# EAGLE library part EPF10K100-IO3 (library mita-akiba)
EPF10K100ARC240 I/O pins 126-174: 41pins
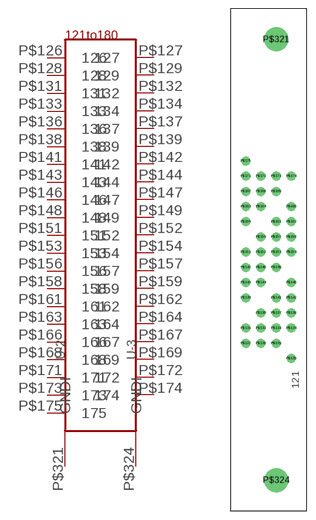
[diagram p15: symbol with the pads of EPF10K100A24IO3; footprint EPF10K100A24IO3]

Designator prefix -; gates -1=EPF10K100A-IO3 -2=GNDINT -3=GNDINT

## EPF10K100-IO3  [EPF10K100A24IO3]
P$126  -1:126
P$127  -1:127
P$128  -1:128
P$129  -1:129
P$131  -1:131
P$132  -1:132
P$133  -1:133
P$134  -1:134
P$136  -1:136
P$137  -1:137
P$138  -1:138
P$139  -1:139
P$141  -1:141
P$142  -1:142
P$143  -1:143
P$144  -1:144
P$146  -1:146
P$147  -1:147
P$148  -1:148
P$149  -1:149
P$151  -1:151
P$152  -1:152
P$153  -1:153
P$154  -1:154
P$156  -1:156
P$157  -1:157
P$158  -1:158
P$159  -1:159
P$161  -1:161
P$162  -1:162
P$163  -1:163
P$164  -1:164
P$166  -1:166
P$167  -1:167
P$168  -1:168
P$169  -1:169
P$171  -1:171
P$172  -1:172
P$173  -1:173
P$174  -1:174
P$175  -1:175
P$321  -2:GNDI  pwr
P$324  -3:GNDI  pwr

## Footprint EPF10K100A24IO3 (pad centres in mm)
FLEX10K100ARC240 User I/O 3rd line
drill 0.9 pad 1.5: P$126 39.37,-16.51; P$127 31.75,-13.97; P$128 34.29,-13.97; P$129 36.83,-13.97; P$131 31.75,-11.43; P$132 34.29,-11.43; P$133 36.83,-11.43; P$134 39.37,-11.43; P$136 34.29,-8.89; P$137 36.83,-8.89; P$138 39.37,-8.89; P$139 31.75,-6.35; P$141 36.83,-6.35; P$142 39.37,-6.35; P$143 31.75,-3.81; P$144 34.29,-3.81; P$146 39.37,-3.81; P$147 31.75,-1.27; P$148 34.29,-1.27; P$149 36.83,-1.27; P$151 31.75,1.27; P$152 34.29,1.27; P$153 36.83,1.27; P$154 39.37,1.27; P$156 34.29,3.81; P$157 36.83,3.81; P$158 39.37,3.81; P$159 31.75,6.35; P$161 36.83,6.35; P$162 39.37,6.35; P$163 31.75,8.89; P$164 34.29,8.89; P$166 39.37,8.89; P$167 31.75,11.43; P$168 34.29,11.43; P$169 36.83,11.43; P$171 31.75,13.97; P$172 34.29,13.97; P$173 36.83,13.97; P$174 39.37,13.97; P$175 31.75,16.51
drill 3 pad 4: P$321 36.83,36.83; P$324 36.83,-36.83